# EAGLE library part MAX489CSD (library maxim)
RS485 TRANSEIVER
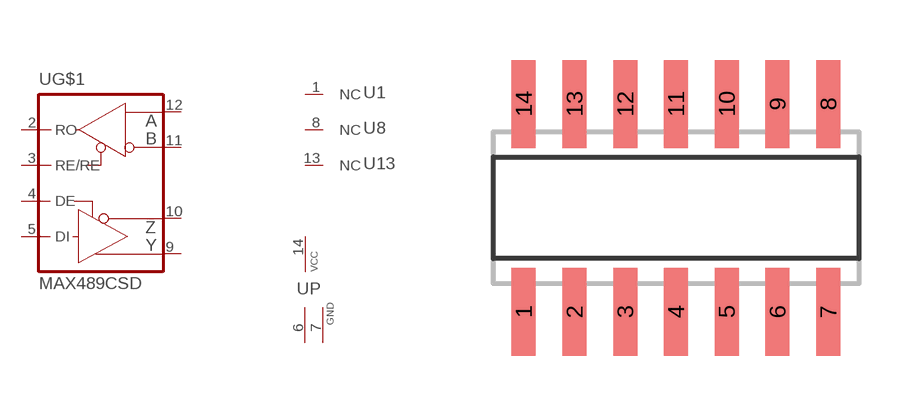
[diagram p346: symbol with the pads of SO14; footprint SO14]

Designator prefix U; gates G$1=MAX489 1=NC 8=NC 13=NC P=PWR2GND

## MAX489CSD (P1I: o)  [SO14]
1  1:NC  nc
2  G$1:RO  out
3  G$1:RE/RE  in
4  G$1:DE  in
5  G$1:DI  in
6  P:GND  pwr
7  P:GND  pwr
8  8:NC  nc
9  G$1:Y  pas
10  G$1:Z  pas
11  G$1:B  pas
12  G$1:A  pas
13  13:NC  nc
14  P:VCC  pwr

## Footprint SO14 (pad centres in mm)
SMALL OUTLINE INTEGRATED CIRCUIT body 3.9 mm/JEDEC MS-012AC
smd 0.6 x 2.2: 1 -3.81,-2.6; 2 -2.54,-2.6; 3 -1.27,-2.6; 4 0,-2.6; 5 1.27,-2.6; 6 2.54,-2.6; 7 3.81,-2.6; 8 3.81,2.6; 9 2.54,2.6; 10 1.27,2.6; 11 0,2.6; 12 -1.27,2.6; 13 -2.54,2.6; 14 -3.81,2.6